# EAGLE library part WE-DS_210612043 (library Wurth_Elektronik_Passive_rev16c)
WE-DS D-SUB-Filter Connectors Bent 90° Characteristics Standard type filtered with 1000 pF High attenuation of more than 40 dB @ 180 MHz Choice of earthing metal sheet or high speed earthing clip Rated voltage: 100 VDC Rated current @ 20 ºC: 5 A Withstand voltage: 250 VRMS Insulation resistance: min. 1000 MΩ Operating temperature: –55 ºC to +125 ºC Applications Filtering of interfaces External connection to -printer -sensor -display <http://katalog.we-online.de/media/thumbs2/eisos/thb_AbsDSubFilter_abgewinkelt_pf2.jpg> Details see: http://katalog.we-online.de/en/pbs/Filter_abgewinkelt Created on 2015-05-04 2015 (C) Wurth Elektronik
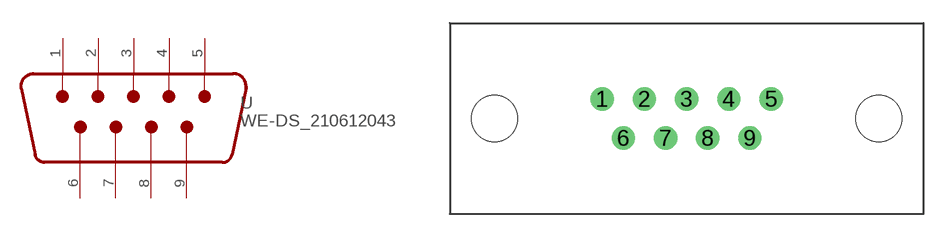
[diagram p192: symbol with the pads of WE-DS_2106120X3; footprint WE-DS_2106120X3]

Designator prefix -

## WE-DS_210612043  [WE-DS_2106120X3]
1  1
2  2
3  3
4  4
5  5
6  6
7  7
8  8
9  9

## Footprint WE-DS_2106120X3 (pad centres in mm)
drill 1: 1 -5.49,1.27; 2 -2.74,1.27; 3 0,1.27; 4 2.74,1.27; 5 5.49,1.27; 6 -4.11,-1.27; 7 -1.37,-1.27; 8 1.37,-1.27; 9 4.11,-1.27
hole 3 at -12.5,0
hole 3 at 12.5,0